# Altium integrated library Linear Technology Power Management Hot Swap Controllers.IntLib: 992 symbols (part 63 of 93)
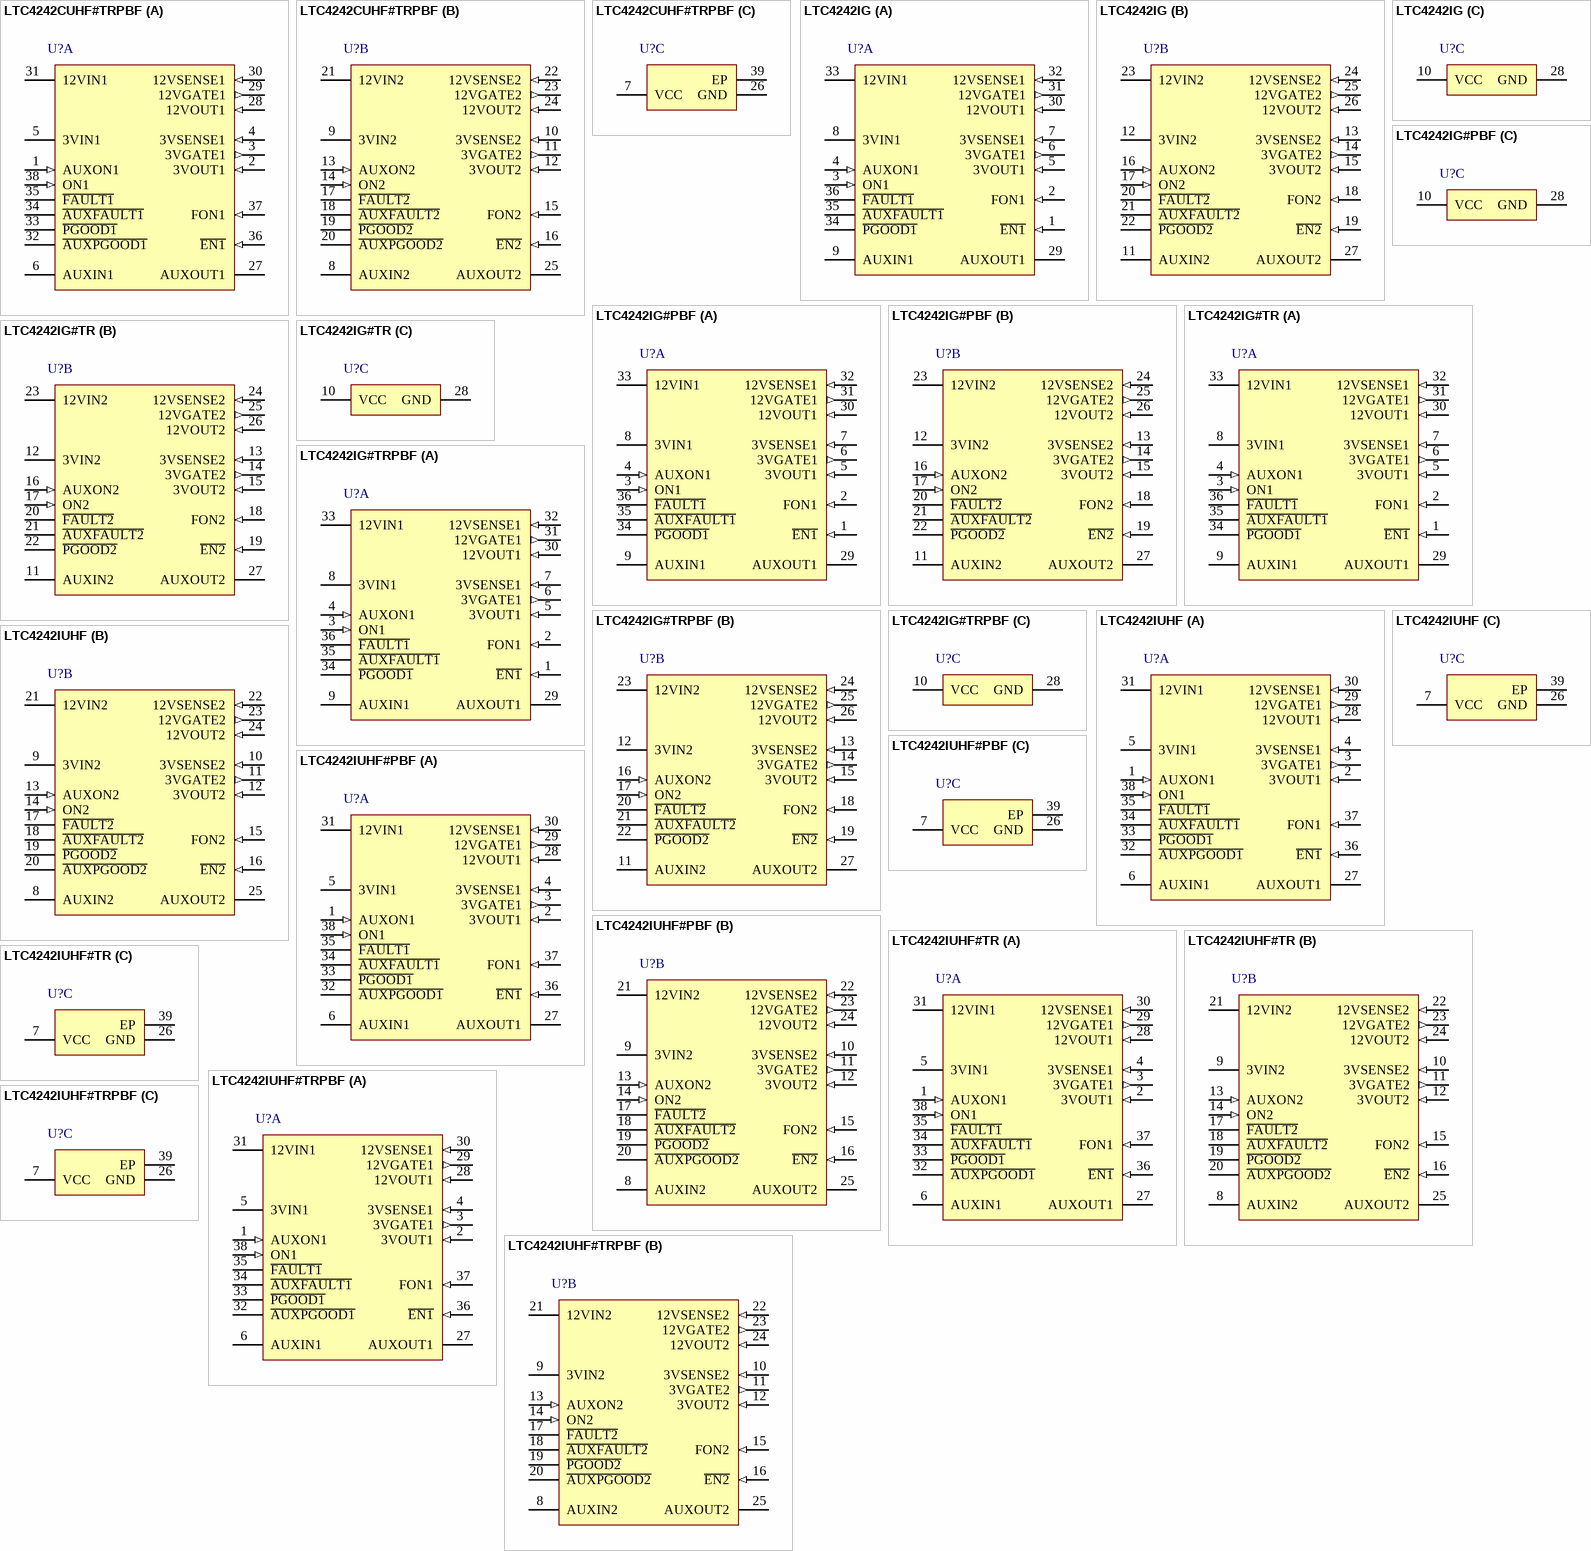
[diagram p99: symbols LTC4242CUHF#TRPBF to LTC4242IUHF#TRPBF]

## LTC4242IUHF#PBF
designator U?
Dual Slot Hot Swap Controller for PCI Express, 3.3 V, 12 V, 3.3 V Aux Vin, 38-pin QFN (UHF-38), -40 to 85 degC, Pb-Free; Manufacturer: Linear Technology; PartNumber: LTC4242IUHF#PBF; Active Limiting: yes; Circuit Breaker Accuracy(%): 10; Circuit Breaker Threshold: 50 mV (3.3,12), 550 mA (3.3 aux); Circuit Breakers(#): 6; Extended Temp: C, I; PackageVersion: Rev. C, 06/2010; PackageReference: UHF-38; PackageDescription: 38-Pin Plastic QFN, Body 7 x 5 mm, Pitch 0.5 mm; Supplier 1: Digi-Key; Supplier Part Number 1: LTC4242IUHF#PBF-ND; Fault: yes; Power Good: yes; RoHS: TRUE; Vin Range: 3.3 V, 12 V, 3.3 V aux; Mounting Technology: Surface Mount; Code_JEDEC: MO-220; ComponentLink1Description: Manufacturer URL; ComponentLink1URL: http://www.linear.com/; ComponentLink2Description: Datasheet; ComponentLink2URL: http://cds.linear.com/docs/en/datasheet/4242f.pdf; ComponentLink3Description: Package Specification; ComponentLink3URL: http://cds.linear.com/docs/en/packaging/QFN_38_05-08-1701.pdf
footprint LT-UHF-38_N (QFN, 38-Leads, Body 7.1x5.1mm, Pitch 0.5mm, Thermal Pad 3.15x5.15mm, IPC Medium Density)
footprint LT-UHF-38_L (QFN, 38-Leads, Body 7.1x5.1mm, Pitch 0.5mm, Thermal Pad 3.15x5.15mm, IPC High Density)
footprint LT-UHF-38_M (QFN, 38-Leads, Body 7.1x5.1mm, Pitch 0.5mm, Thermal Pad 3.15x5.15mm, IPC Low Density)
part A pins: 1 AUXON1 (in) "AUX Supply On Control Input. A rising edge turns on the internal FET, while a falling edge turns it off. Pulling this pin below 0.6V for more than 3.5us clears the fault on the AUX channel.", 2 3VOUT1 (in) "3.3V Output Connection. Connect this pin to the source of the 3.3V supply external N-channel MOSFET for gate drive return. P\G\O\O\D\1\/P\G\O\O\D\2\ cannot pull low until this pin goes above 2.855V. A 375ohm active pull-down (See Datasheet)", 3 3VGATE1 (out) "Gate Drive for 3.3V Supply External N-Channel MOSFET. An internal charge pump provides a 9uA pull-up current to ramp up 3VGATEn. During turn off, a 1mA pull-down current source discharges 3VGATEn to ground. 3VGATEn is (See Datasheet)", 4 3VSENSE1 (in) "3.3V Supply Current Limit Sense Input. A sense resistor is placed in the supply path between 3VINn and 3VSENSEn to sense 3.3V channel’s load current. The voltage across the sense resistor is monitored for active curren(See Datasheet)", 5 3VIN1 (power) "3.3V Supply Input. An undervoltage lockout circuit disables the 3.3V and 12V supplies when 3VINn voltage is less than 2.67V.", 6 AUXIN1 (power) "AUX Supply Input. An undervoltage lockout circuit disables the AUX supply when the voltage at AUXINn is less than 2.67V. AUXINn is the input to the internal pass FET.", 27 AUXOUT1 (power) "AUX Supply Output. AUXOUTn is the output from the internal pass FET. A\U\X\P\G\O\O\D\1\/A\U\X\P\G\O\O\D\2\ cannot pull low until this pin goes above 2.855V. A 750ohm active pull-down discharges AUXOUTn to ground when the (See Datasheet)", 28 12VOUT1 (in) "12V Output Connection. Connect this pin to the source of the 12V supply external N-channel MOSFET for gate drive return. P\G\O\O\D\1\/P\G\O\O\D\2\ cannot pull low until this pin goes above 10.38V. A 700ohm active pull-down (See Datasheet)", 29 12VGATE1 (out) "Gate Drive for 12V Supply External N-Channel MOSFET. An internal charge pump provides a 9uA pull-up current to ramp up 12VGATEn. During turn off, a 1mA pull-down current source discharges 12VGATEn to ground. 12VGATEn is (See Datasheet)", 30 12VSENSE1 (in) "12V Supply Current Limit Sense Input. A sense resistor is placed in the supply path between 12VINn and 12VSENSEn to sense the 12V channel’s load current. The voltage across the sense resistor is monitored for activ(See Datasheet)", 31 12VIN1 (power) "12V Supply Input. An undervoltage lockout circuit disables the 12V and 3.3V supplies when 12VINn voltage is less than 9.78V.", 32 ~{AUXPGOOD1} (oc) "AUX Supply Power Status Output. This open-drain pin is pulled high by an internal 9uA pull-up when AUXOUTn is below power good threshold, when E\N\n\ is high, during thermal shutdown, AUXONn is low or when VCC or AUXINn are (See Datasheet)", 33 ~{PGOOD1} (oc) "Main Supply Power Status Output. This open-drain pin is pulled high by an internal 9uA pull-up when 12VOUTn or 3VOUTn is below power good threshold, when E\N\n\ is high, ONn is low or when VCC or any of the main supplies are (See Datasheet)", 34 ~{AUXFAULT1} (oc) "AUX Supply Fault Status Output. A\U\X\F\A\U\L\T\n\ is normally pulled high by an internal 9uA pull-up. It asserts low if the AUX channel shuts off due to an overcurrent fault or due to the device temperature rising above (See Datasheet)", 35 ~{FAULT1} (oc) "Main Supplies Fault Status Output. F\A\U\L\T\n\ is pulled high by an internal 9uA pull-up. When an overcurrent fault occurs at either the 12V or 3.3V supply, F\A\U\L\T\n\ is latched low.", 36 ~{EN1} (in) "Card Presence/Slot Insert Detect Input. E\N\n\ pin must be pulled below 1.235V to enable the system. An internal 9uA pull-up current source is present on this pin.", 37 FON1 (in) "Force On Digital Input. For diagnostic purposes, a high input overrides undervoltage and overcurrent faults on 12V, 3.3V and AUX channels and input commands on the ONn and AUXONn pins. However, UVLO on VCC would shut off the (See Datasheet)", 38 ON1 (in) "Main Supply On Control Input. A rising edge turns on the external MOSFETs for the 12V and 3.3V supplies, while a falling edge turns them off. Pull this pin below 0.6V to clear the faults on 12V and 3.3V channels."
part B pins: 8 AUXIN2 (power) "AUX Supply Input. An undervoltage lockout circuit disables the AUX supply when the voltage at AUXINn is less than 2.67V. AUXINn is the input to the internal pass FET.", 9 3VIN2 (power) "3.3V Supply Input. An undervoltage lockout circuit disables the 3.3V and 12V supplies when 3VINn voltage is less than 2.67V.", 10 3VSENSE2 (in) "3.3V Supply Current Limit Sense Input. A sense resistor is placed in the supply path between 3VINn and 3VSENSEn to sense 3.3V channel’s load current. The voltage across the sense resistor is monitored for active curren(See Datasheet)", 11 3VGATE2 (out) "Gate Drive for 3.3V Supply External N-Channel MOSFET. An internal charge pump provides a 9uA pull-up current to ramp up 3VGATEn. During turn off, a 1mA pull-down current source discharges 3VGATEn to ground. 3VGATEn is (See Datasheet)", 12 3VOUT2 (in) "3.3V Output Connection. Connect this pin to the source of the 3.3V supply external N-channel MOSFET for gate drive return. P\G\O\O\D\1\/P\G\O\O\D\2\ cannot pull low until this pin goes above 2.855V. A 375ohm active pull-down (See Datasheet)", 13 AUXON2 (in) "AUX Supply On Control Input. A rising edge turns on the internal FET, while a falling edge turns it off. Pulling this pin below 0.6V for more than 3.5us clears the fault on the AUX channel.", 14 ON2 (in) "Main Supply On Control Input. A rising edge turns on the external MOSFETs for the 12V and 3.3V supplies, while a falling edge turns them off. Pull this pin below 0.6V to clear the faults on 12V and 3.3V channels.", 15 FON2 (in) "Force On Digital Input. For diagnostic purposes, a high input overrides undervoltage and overcurrent faults on 12V, 3.3V and AUX channels and input commands on the ONn and AUXONn pins. However, UVLO on VCC would shut off the (See Datasheet)", 16 ~{EN2} (in) "Card Presence/Slot Insert Detect Input. E\N\n\ pin must be pulled below 1.235V to enable the system. An internal 9uA pull-up current source is present on this pin.", 17 ~{FAULT2} (oc) "Main Supplies Fault Status Output. F\A\U\L\T\n\ is pulled high by an internal 9uA pull-up. When an overcurrent fault occurs at either the 12V or 3.3V supply, F\A\U\L\T\n\ is latched low.", 18 ~{AUXFAULT2} (oc) "AUX Supply Fault Status Output. A\U\X\F\A\U\L\T\n\ is normally pulled high by an internal 9uA pull-up. It asserts low if the AUX channel shuts off due to an overcurrent fault or due to the device temperature rising above (See Datasheet)", 19 ~{PGOOD2} (oc) "Main Supply Power Status Output. This open-drain pin is pulled high by an internal 9uA pull-up when 12VOUTn or 3VOUTn is below power good threshold, when E\N\n\ is high, ONn is low or when VCC or any of the main supplies are (See Datasheet)", 20 ~{AUXPGOOD2} (oc) "AUX Supply Power Status Output. This open-drain pin is pulled high by an internal 9uA pull-up when AUXOUTn is below power good threshold, when E\N\n\ is high, during thermal shutdown, AUXONn is low or when VCC or AUXINn are (See Datasheet)", 21 12VIN2 (power) "12V Supply Input. An undervoltage lockout circuit disables the 12V and 3.3V supplies when 12VINn voltage is less than 9.78V.", 22 12VSENSE2 (in) "12V Supply Current Limit Sense Input. A sense resistor is placed in the supply path between 12VINn and 12VSENSEn to sense the 12V channel’s load current. The voltage across the sense resistor is monitored for activ(See Datasheet)", 23 12VGATE2 (out) "Gate Drive for 12V Supply External N-Channel MOSFET. An internal charge pump provides a 9uA pull-up current to ramp up 12VGATEn. During turn off, a 1mA pull-down current source discharges 12VGATEn to ground. 12VGATEn is (See Datasheet)", 24 12VOUT2 (in) "12V Output Connection. Connect this pin to the source of the 12V supply external N-channel MOSFET for gate drive return. P\G\O\O\D\1\/P\G\O\O\D\2\ cannot pull low until this pin goes above 10.38V. A 700ohm active pull-down (See Datasheet)", 25 AUXOUT2 (power) "AUX Supply Output. AUXOUTn is the output from the internal pass FET. A\U\X\P\G\O\O\D\1\/A\U\X\P\G\O\O\D\2\ cannot pull low until this pin goes above 2.855V. A 750ohm active pull-down discharges AUXOUTn to ground when the (See Datasheet)"
part C pins: 7 VCC (power) "Device Supply Input. Operates from 2.7V to 6V. An internal undervoltage lockout circuit disables the part until the voltage at VCC exceeds 2.45V.", 26 GND (power) "Device Ground. Connect to a ground plane.", 39 EP (power) "Power Ground. PCB electrical connection is optional."

## LTC4242IUHF#TR
designator U?
Dual Slot Hot Swap Controller for PCI Express, 3.3 V, 12 V, 3.3 V Aux Vin, 38-pin QFN (UHF-38), -40 to 85 degC, Tape and Reel; Manufacturer: Linear Technology; PartNumber: LTC4242IUHF#TR; Active Limiting: yes; Circuit Breaker Accuracy(%): 10; Circuit Breaker Threshold: 50 mV (3.3,12), 550 mA (3.3 aux); Circuit Breakers(#): 6; Extended Temp: C, I; PackageVersion: Rev. C, 06/2010; PackageReference: UHF-38; PackageDescription: 38-Pin Plastic QFN, Body 7 x 5 mm, Pitch 0.5 mm; Fault: yes; Packing: Tape and Reel; Power Good: yes; RoHS: FALSE; Vin Range: 3.3 V, 12 V, 3.3 V aux; Mounting Technology: Surface Mount; Code_JEDEC: MO-220; ComponentLink1Description: Manufacturer URL; ComponentLink1URL: http://www.linear.com/; ComponentLink2Description: Datasheet; ComponentLink2URL: http://cds.linear.com/docs/en/datasheet/4242f.pdf; ComponentLink3Description: Package Specification; ComponentLink3URL: http://cds.linear.com/docs/en/packaging/QFN_38_05-08-1701.pdf
footprint LT-UHF-38_N (QFN, 38-Leads, Body 7.1x5.1mm, Pitch 0.5mm, Thermal Pad 3.15x5.15mm, IPC Medium Density)
footprint LT-UHF-38_L (QFN, 38-Leads, Body 7.1x5.1mm, Pitch 0.5mm, Thermal Pad 3.15x5.15mm, IPC High Density)
footprint LT-UHF-38_M (QFN, 38-Leads, Body 7.1x5.1mm, Pitch 0.5mm, Thermal Pad 3.15x5.15mm, IPC Low Density)
part A pins: 1 AUXON1 (in) "AUX Supply On Control Input. A rising edge turns on the internal FET, while a falling edge turns it off. Pulling this pin below 0.6V for more than 3.5us clears the fault on the AUX channel.", 2 3VOUT1 (in) "3.3V Output Connection. Connect this pin to the source of the 3.3V supply external N-channel MOSFET for gate drive return. P\G\O\O\D\1\/P\G\O\O\D\2\ cannot pull low until this pin goes above 2.855V. A 375ohm active pull-down (See Datasheet)", 3 3VGATE1 (out) "Gate Drive for 3.3V Supply External N-Channel MOSFET. An internal charge pump provides a 9uA pull-up current to ramp up 3VGATEn. During turn off, a 1mA pull-down current source discharges 3VGATEn to ground. 3VGATEn is (See Datasheet)", 4 3VSENSE1 (in) "3.3V Supply Current Limit Sense Input. A sense resistor is placed in the supply path between 3VINn and 3VSENSEn to sense 3.3V channel’s load current. The voltage across the sense resistor is monitored for active curren(See Datasheet)", 5 3VIN1 (power) "3.3V Supply Input. An undervoltage lockout circuit disables the 3.3V and 12V supplies when 3VINn voltage is less than 2.67V.", 6 AUXIN1 (power) "AUX Supply Input. An undervoltage lockout circuit disables the AUX supply when the voltage at AUXINn is less than 2.67V. AUXINn is the input to the internal pass FET.", 27 AUXOUT1 (power) "AUX Supply Output. AUXOUTn is the output from the internal pass FET. A\U\X\P\G\O\O\D\1\/A\U\X\P\G\O\O\D\2\ cannot pull low until this pin goes above 2.855V. A 750ohm active pull-down discharges AUXOUTn to ground when the (See Datasheet)", 28 12VOUT1 (in) "12V Output Connection. Connect this pin to the source of the 12V supply external N-channel MOSFET for gate drive return. P\G\O\O\D\1\/P\G\O\O\D\2\ cannot pull low until this pin goes above 10.38V. A 700ohm active pull-down (See Datasheet)", 29 12VGATE1 (out) "Gate Drive for 12V Supply External N-Channel MOSFET. An internal charge pump provides a 9uA pull-up current to ramp up 12VGATEn. During turn off, a 1mA pull-down current source discharges 12VGATEn to ground. 12VGATEn is (See Datasheet)", 30 12VSENSE1 (in) "12V Supply Current Limit Sense Input. A sense resistor is placed in the supply path between 12VINn and 12VSENSEn to sense the 12V channel’s load current. The voltage across the sense resistor is monitored for activ(See Datasheet)", 31 12VIN1 (power) "12V Supply Input. An undervoltage lockout circuit disables the 12V and 3.3V supplies when 12VINn voltage is less than 9.78V.", 32 ~{AUXPGOOD1} (oc) "AUX Supply Power Status Output. This open-drain pin is pulled high by an internal 9uA pull-up when AUXOUTn is below power good threshold, when E\N\n\ is high, during thermal shutdown, AUXONn is low or when VCC or AUXINn are (See Datasheet)", 33 ~{PGOOD1} (oc) "Main Supply Power Status Output. This open-drain pin is pulled high by an internal 9uA pull-up when 12VOUTn or 3VOUTn is below power good threshold, when E\N\n\ is high, ONn is low or when VCC or any of the main supplies are (See Datasheet)", 34 ~{AUXFAULT1} (oc) "AUX Supply Fault Status Output. A\U\X\F\A\U\L\T\n\ is normally pulled high by an internal 9uA pull-up. It asserts low if the AUX channel shuts off due to an overcurrent fault or due to the device temperature rising above (See Datasheet)", 35 ~{FAULT1} (oc) "Main Supplies Fault Status Output. F\A\U\L\T\n\ is pulled high by an internal 9uA pull-up. When an overcurrent fault occurs at either the 12V or 3.3V supply, F\A\U\L\T\n\ is latched low.", 36 ~{EN1} (in) "Card Presence/Slot Insert Detect Input. E\N\n\ pin must be pulled below 1.235V to enable the system. An internal 9uA pull-up current source is present on this pin.", 37 FON1 (in) "Force On Digital Input. For diagnostic purposes, a high input overrides undervoltage and overcurrent faults on 12V, 3.3V and AUX channels and input commands on the ONn and AUXONn pins. However, UVLO on VCC would shut off the (See Datasheet)", 38 ON1 (in) "Main Supply On Control Input. A rising edge turns on the external MOSFETs for the 12V and 3.3V supplies, while a falling edge turns them off. Pull this pin below 0.6V to clear the faults on 12V and 3.3V channels."
part B pins: 8 AUXIN2 (power) "AUX Supply Input. An undervoltage lockout circuit disables the AUX supply when the voltage at AUXINn is less than 2.67V. AUXINn is the input to the internal pass FET.", 9 3VIN2 (power) "3.3V Supply Input. An undervoltage lockout circuit disables the 3.3V and 12V supplies when 3VINn voltage is less than 2.67V.", 10 3VSENSE2 (in) "3.3V Supply Current Limit Sense Input. A sense resistor is placed in the supply path between 3VINn and 3VSENSEn to sense 3.3V channel’s load current. The voltage across the sense resistor is monitored for active curren(See Datasheet)", 11 3VGATE2 (out) "Gate Drive for 3.3V Supply External N-Channel MOSFET. An internal charge pump provides a 9uA pull-up current to ramp up 3VGATEn. During turn off, a 1mA pull-down current source discharges 3VGATEn to ground. 3VGATEn is (See Datasheet)", 12 3VOUT2 (in) "3.3V Output Connection. Connect this pin to the source of the 3.3V supply external N-channel MOSFET for gate drive return. P\G\O\O\D\1\/P\G\O\O\D\2\ cannot pull low until this pin goes above 2.855V. A 375ohm active pull-down (See Datasheet)", 13 AUXON2 (in) "AUX Supply On Control Input. A rising edge turns on the internal FET, while a falling edge turns it off. Pulling this pin below 0.6V for more than 3.5us clears the fault on the AUX channel.", 14 ON2 (in) "Main Supply On Control Input. A rising edge turns on the external MOSFETs for the 12V and 3.3V supplies, while a falling edge turns them off. Pull this pin below 0.6V to clear the faults on 12V and 3.3V channels.", 15 FON2 (in) "Force On Digital Input. For diagnostic purposes, a high input overrides undervoltage and overcurrent faults on 12V, 3.3V and AUX channels and input commands on the ONn and AUXONn pins. However, UVLO on VCC would shut off the (See Datasheet)", 16 ~{EN2} (in) "Card Presence/Slot Insert Detect Input. E\N\n\ pin must be pulled below 1.235V to enable the system. An internal 9uA pull-up current source is present on this pin.", 17 ~{FAULT2} (oc) "Main Supplies Fault Status Output. F\A\U\L\T\n\ is pulled high by an internal 9uA pull-up. When an overcurrent fault occurs at either the 12V or 3.3V supply, F\A\U\L\T\n\ is latched low.", 18 ~{AUXFAULT2} (oc) "AUX Supply Fault Status Output. A\U\X\F\A\U\L\T\n\ is normally pulled high by an internal 9uA pull-up. It asserts low if the AUX channel shuts off due to an overcurrent fault or due to the device temperature rising above (See Datasheet)", 19 ~{PGOOD2} (oc) "Main Supply Power Status Output. This open-drain pin is pulled high by an internal 9uA pull-up when 12VOUTn or 3VOUTn is below power good threshold, when E\N\n\ is high, ONn is low or when VCC or any of the main supplies are (See Datasheet)", 20 ~{AUXPGOOD2} (oc) "AUX Supply Power Status Output. This open-drain pin is pulled high by an internal 9uA pull-up when AUXOUTn is below power good threshold, when E\N\n\ is high, during thermal shutdown, AUXONn is low or when VCC or AUXINn are (See Datasheet)", 21 12VIN2 (power) "12V Supply Input. An undervoltage lockout circuit disables the 12V and 3.3V supplies when 12VINn voltage is less than 9.78V.", 22 12VSENSE2 (in) "12V Supply Current Limit Sense Input. A sense resistor is placed in the supply path between 12VINn and 12VSENSEn to sense the 12V channel’s load current. The voltage across the sense resistor is monitored for activ(See Datasheet)", 23 12VGATE2 (out) "Gate Drive for 12V Supply External N-Channel MOSFET. An internal charge pump provides a 9uA pull-up current to ramp up 12VGATEn. During turn off, a 1mA pull-down current source discharges 12VGATEn to ground. 12VGATEn is (See Datasheet)", 24 12VOUT2 (in) "12V Output Connection. Connect this pin to the source of the 12V supply external N-channel MOSFET for gate drive return. P\G\O\O\D\1\/P\G\O\O\D\2\ cannot pull low until this pin goes above 10.38V. A 700ohm active pull-down (See Datasheet)", 25 AUXOUT2 (power) "AUX Supply Output. AUXOUTn is the output from the internal pass FET. A\U\X\P\G\O\O\D\1\/A\U\X\P\G\O\O\D\2\ cannot pull low until this pin goes above 2.855V. A 750ohm active pull-down discharges AUXOUTn to ground when the (See Datasheet)"
part C pins: 7 VCC (power) "Device Supply Input. Operates from 2.7V to 6V. An internal undervoltage lockout circuit disables the part until the voltage at VCC exceeds 2.45V.", 26 GND (power) "Device Ground. Connect to a ground plane.", 39 EP (power) "Power Ground. PCB electrical connection is optional."

## LTC4242IUHF#TRPBF
designator U?
Dual Slot Hot Swap Controller for PCI Express, 3.3 V, 12 V, 3.3 V Aux Vin, 38-pin QFN (UHF-38), -40 to 85 degC, Pb-Free, Tape and Reel; Manufacturer: Linear Technology; PartNumber: LTC4242IUHF#TRPBF; Active Limiting: yes; Circuit Breaker Accuracy(%): 10; Circuit Breaker Threshold: 50 mV (3.3,12), 550 mA (3.3 aux); Circuit Breakers(#): 6; Extended Temp: C, I; PackageVersion: Rev. C, 06/2010; PackageReference: UHF-38; PackageDescription: 38-Pin Plastic QFN, Body 7 x 5 mm, Pitch 0.5 mm; Supplier 1: Digi-Key; Supplier Part Number 1: LTC4242IUHF#TRPBF-ND; Supplier 2: Newark; Supplier Part Number 2: 56M8918; Fault: yes; Packing: Tape and Reel; Power Good: yes; RoHS: TRUE; Vin Range: 3.3 V, 12 V, 3.3 V aux; Mounting Technology: Surface Mount; Code_JEDEC: MO-220; ComponentLink1Description: Manufacturer URL; ComponentLink1URL: http://www.linear.com/; ComponentLink2Description: Datasheet; ComponentLink2URL: http://cds.linear.com/docs/en/datasheet/4242f.pdf; ComponentLink3Description: Package Specification; ComponentLink3URL: http://cds.linear.com/docs/en/packaging/QFN_38_05-08-1701.pdf
footprint LT-UHF-38_N (QFN, 38-Leads, Body 7.1x5.1mm, Pitch 0.5mm, Thermal Pad 3.15x5.15mm, IPC Medium Density)
footprint LT-UHF-38_L (QFN, 38-Leads, Body 7.1x5.1mm, Pitch 0.5mm, Thermal Pad 3.15x5.15mm, IPC High Density)
footprint LT-UHF-38_M (QFN, 38-Leads, Body 7.1x5.1mm, Pitch 0.5mm, Thermal Pad 3.15x5.15mm, IPC Low Density)
part A pins: 1 AUXON1 (in) "AUX Supply On Control Input. A rising edge turns on the internal FET, while a falling edge turns it off. Pulling this pin below 0.6V for more than 3.5us clears the fault on the AUX channel.", 2 3VOUT1 (in) "3.3V Output Connection. Connect this pin to the source of the 3.3V supply external N-channel MOSFET for gate drive return. P\G\O\O\D\1\/P\G\O\O\D\2\ cannot pull low until this pin goes above 2.855V. A 375ohm active pull-down (See Datasheet)", 3 3VGATE1 (out) "Gate Drive for 3.3V Supply External N-Channel MOSFET. An internal charge pump provides a 9uA pull-up current to ramp up 3VGATEn. During turn off, a 1mA pull-down current source discharges 3VGATEn to ground. 3VGATEn is (See Datasheet)", 4 3VSENSE1 (in) "3.3V Supply Current Limit Sense Input. A sense resistor is placed in the supply path between 3VINn and 3VSENSEn to sense 3.3V channel’s load current. The voltage across the sense resistor is monitored for active curren(See Datasheet)", 5 3VIN1 (power) "3.3V Supply Input. An undervoltage lockout circuit disables the 3.3V and 12V supplies when 3VINn voltage is less than 2.67V.", 6 AUXIN1 (power) "AUX Supply Input. An undervoltage lockout circuit disables the AUX supply when the voltage at AUXINn is less than 2.67V. AUXINn is the input to the internal pass FET.", 27 AUXOUT1 (power) "AUX Supply Output. AUXOUTn is the output from the internal pass FET. A\U\X\P\G\O\O\D\1\/A\U\X\P\G\O\O\D\2\ cannot pull low until this pin goes above 2.855V. A 750ohm active pull-down discharges AUXOUTn to ground when the (See Datasheet)", 28 12VOUT1 (in) "12V Output Connection. Connect this pin to the source of the 12V supply external N-channel MOSFET for gate drive return. P\G\O\O\D\1\/P\G\O\O\D\2\ cannot pull low until this pin goes above 10.38V. A 700ohm active pull-down (See Datasheet)", 29 12VGATE1 (out) "Gate Drive for 12V Supply External N-Channel MOSFET. An internal charge pump provides a 9uA pull-up current to ramp up 12VGATEn. During turn off, a 1mA pull-down current source discharges 12VGATEn to ground. 12VGATEn is (See Datasheet)", 30 12VSENSE1 (in) "12V Supply Current Limit Sense Input. A sense resistor is placed in the supply path between 12VINn and 12VSENSEn to sense the 12V channel’s load current. The voltage across the sense resistor is monitored for activ(See Datasheet)", 31 12VIN1 (power) "12V Supply Input. An undervoltage lockout circuit disables the 12V and 3.3V supplies when 12VINn voltage is less than 9.78V.", 32 ~{AUXPGOOD1} (oc) "AUX Supply Power Status Output. This open-drain pin is pulled high by an internal 9uA pull-up when AUXOUTn is below power good threshold, when E\N\n\ is high, during thermal shutdown, AUXONn is low or when VCC or AUXINn are (See Datasheet)", 33 ~{PGOOD1} (oc) "Main Supply Power Status Output. This open-drain pin is pulled high by an internal 9uA pull-up when 12VOUTn or 3VOUTn is below power good threshold, when E\N\n\ is high, ONn is low or when VCC or any of the main supplies are (See Datasheet)", 34 ~{AUXFAULT1} (oc) "AUX Supply Fault Status Output. A\U\X\F\A\U\L\T\n\ is normally pulled high by an internal 9uA pull-up. It asserts low if the AUX channel shuts off due to an overcurrent fault or due to the device temperature rising above (See Datasheet)", 35 ~{FAULT1} (oc) "Main Supplies Fault Status Output. F\A\U\L\T\n\ is pulled high by an internal 9uA pull-up. When an overcurrent fault occurs at either the 12V or 3.3V supply, F\A\U\L\T\n\ is latched low.", 36 ~{EN1} (in) "Card Presence/Slot Insert Detect Input. E\N\n\ pin must be pulled below 1.235V to enable the system. An internal 9uA pull-up current source is present on this pin.", 37 FON1 (in) "Force On Digital Input. For diagnostic purposes, a high input overrides undervoltage and overcurrent faults on 12V, 3.3V and AUX channels and input commands on the ONn and AUXONn pins. However, UVLO on VCC would shut off the (See Datasheet)", 38 ON1 (in) "Main Supply On Control Input. A rising edge turns on the external MOSFETs for the 12V and 3.3V supplies, while a falling edge turns them off. Pull this pin below 0.6V to clear the faults on 12V and 3.3V channels."
part B pins: 8 AUXIN2 (power) "AUX Supply Input. An undervoltage lockout circuit disables the AUX supply when the voltage at AUXINn is less than 2.67V. AUXINn is the input to the internal pass FET.", 9 3VIN2 (power) "3.3V Supply Input. An undervoltage lockout circuit disables the 3.3V and 12V supplies when 3VINn voltage is less than 2.67V.", 10 3VSENSE2 (in) "3.3V Supply Current Limit Sense Input. A sense resistor is placed in the supply path between 3VINn and 3VSENSEn to sense 3.3V channel’s load current. The voltage across the sense resistor is monitored for active curren(See Datasheet)", 11 3VGATE2 (out) "Gate Drive for 3.3V Supply External N-Channel MOSFET. An internal charge pump provides a 9uA pull-up current to ramp up 3VGATEn. During turn off, a 1mA pull-down current source discharges 3VGATEn to ground. 3VGATEn is (See Datasheet)", 12 3VOUT2 (in) "3.3V Output Connection. Connect this pin to the source of the 3.3V supply external N-channel MOSFET for gate drive return. P\G\O\O\D\1\/P\G\O\O\D\2\ cannot pull low until this pin goes above 2.855V. A 375ohm active pull-down (See Datasheet)", 13 AUXON2 (in) "AUX Supply On Control Input. A rising edge turns on the internal FET, while a falling edge turns it off. Pulling this pin below 0.6V for more than 3.5us clears the fault on the AUX channel.", 14 ON2 (in) "Main Supply On Control Input. A rising edge turns on the external MOSFETs for the 12V and 3.3V supplies, while a falling edge turns them off. Pull this pin below 0.6V to clear the faults on 12V and 3.3V channels.", 15 FON2 (in) "Force On Digital Input. For diagnostic purposes, a high input overrides undervoltage and overcurrent faults on 12V, 3.3V and AUX channels and input commands on the ONn and AUXONn pins. However, UVLO on VCC would shut off the (See Datasheet)", 16 ~{EN2} (in) "Card Presence/Slot Insert Detect Input. E\N\n\ pin must be pulled below 1.235V to enable the system. An internal 9uA pull-up current source is present on this pin.", 17 ~{FAULT2} (oc) "Main Supplies Fault Status Output. F\A\U\L\T\n\ is pulled high by an internal 9uA pull-up. When an overcurrent fault occurs at either the 12V or 3.3V supply, F\A\U\L\T\n\ is latched low.", 18 ~{AUXFAULT2} (oc) "AUX Supply Fault Status Output. A\U\X\F\A\U\L\T\n\ is normally pulled high by an internal 9uA pull-up. It asserts low if the AUX channel shuts off due to an overcurrent fault or due to the device temperature rising above (See Datasheet)", 19 ~{PGOOD2} (oc) "Main Supply Power Status Output. This open-drain pin is pulled high by an internal 9uA pull-up when 12VOUTn or 3VOUTn is below power good threshold, when E\N\n\ is high, ONn is low or when VCC or any of the main supplies are (See Datasheet)", 20 ~{AUXPGOOD2} (oc) "AUX Supply Power Status Output. This open-drain pin is pulled high by an internal 9uA pull-up when AUXOUTn is below power good threshold, when E\N\n\ is high, during thermal shutdown, AUXONn is low or when VCC or AUXINn are (See Datasheet)", 21 12VIN2 (power) "12V Supply Input. An undervoltage lockout circuit disables the 12V and 3.3V supplies when 12VINn voltage is less than 9.78V.", 22 12VSENSE2 (in) "12V Supply Current Limit Sense Input. A sense resistor is placed in the supply path between 12VINn and 12VSENSEn to sense the 12V channel’s load current. The voltage across the sense resistor is monitored for activ(See Datasheet)", 23 12VGATE2 (out) "Gate Drive for 12V Supply External N-Channel MOSFET. An internal charge pump provides a 9uA pull-up current to ramp up 12VGATEn. During turn off, a 1mA pull-down current source discharges 12VGATEn to ground. 12VGATEn is (See Datasheet)", 24 12VOUT2 (in) "12V Output Connection. Connect this pin to the source of the 12V supply external N-channel MOSFET for gate drive return. P\G\O\O\D\1\/P\G\O\O\D\2\ cannot pull low until this pin goes above 10.38V. A 700ohm active pull-down (See Datasheet)", 25 AUXOUT2 (power) "AUX Supply Output. AUXOUTn is the output from the internal pass FET. A\U\X\P\G\O\O\D\1\/A\U\X\P\G\O\O\D\2\ cannot pull low until this pin goes above 2.855V. A 750ohm active pull-down discharges AUXOUTn to ground when the (See Datasheet)"
part C pins: 7 VCC (power) "Device Supply Input. Operates from 2.7V to 6V. An internal undervoltage lockout circuit disables the part until the voltage at VCC exceeds 2.45V.", 26 GND (power) "Device Ground. Connect to a ground plane.", 39 EP (power) "Power Ground. PCB electrical connection is optional."

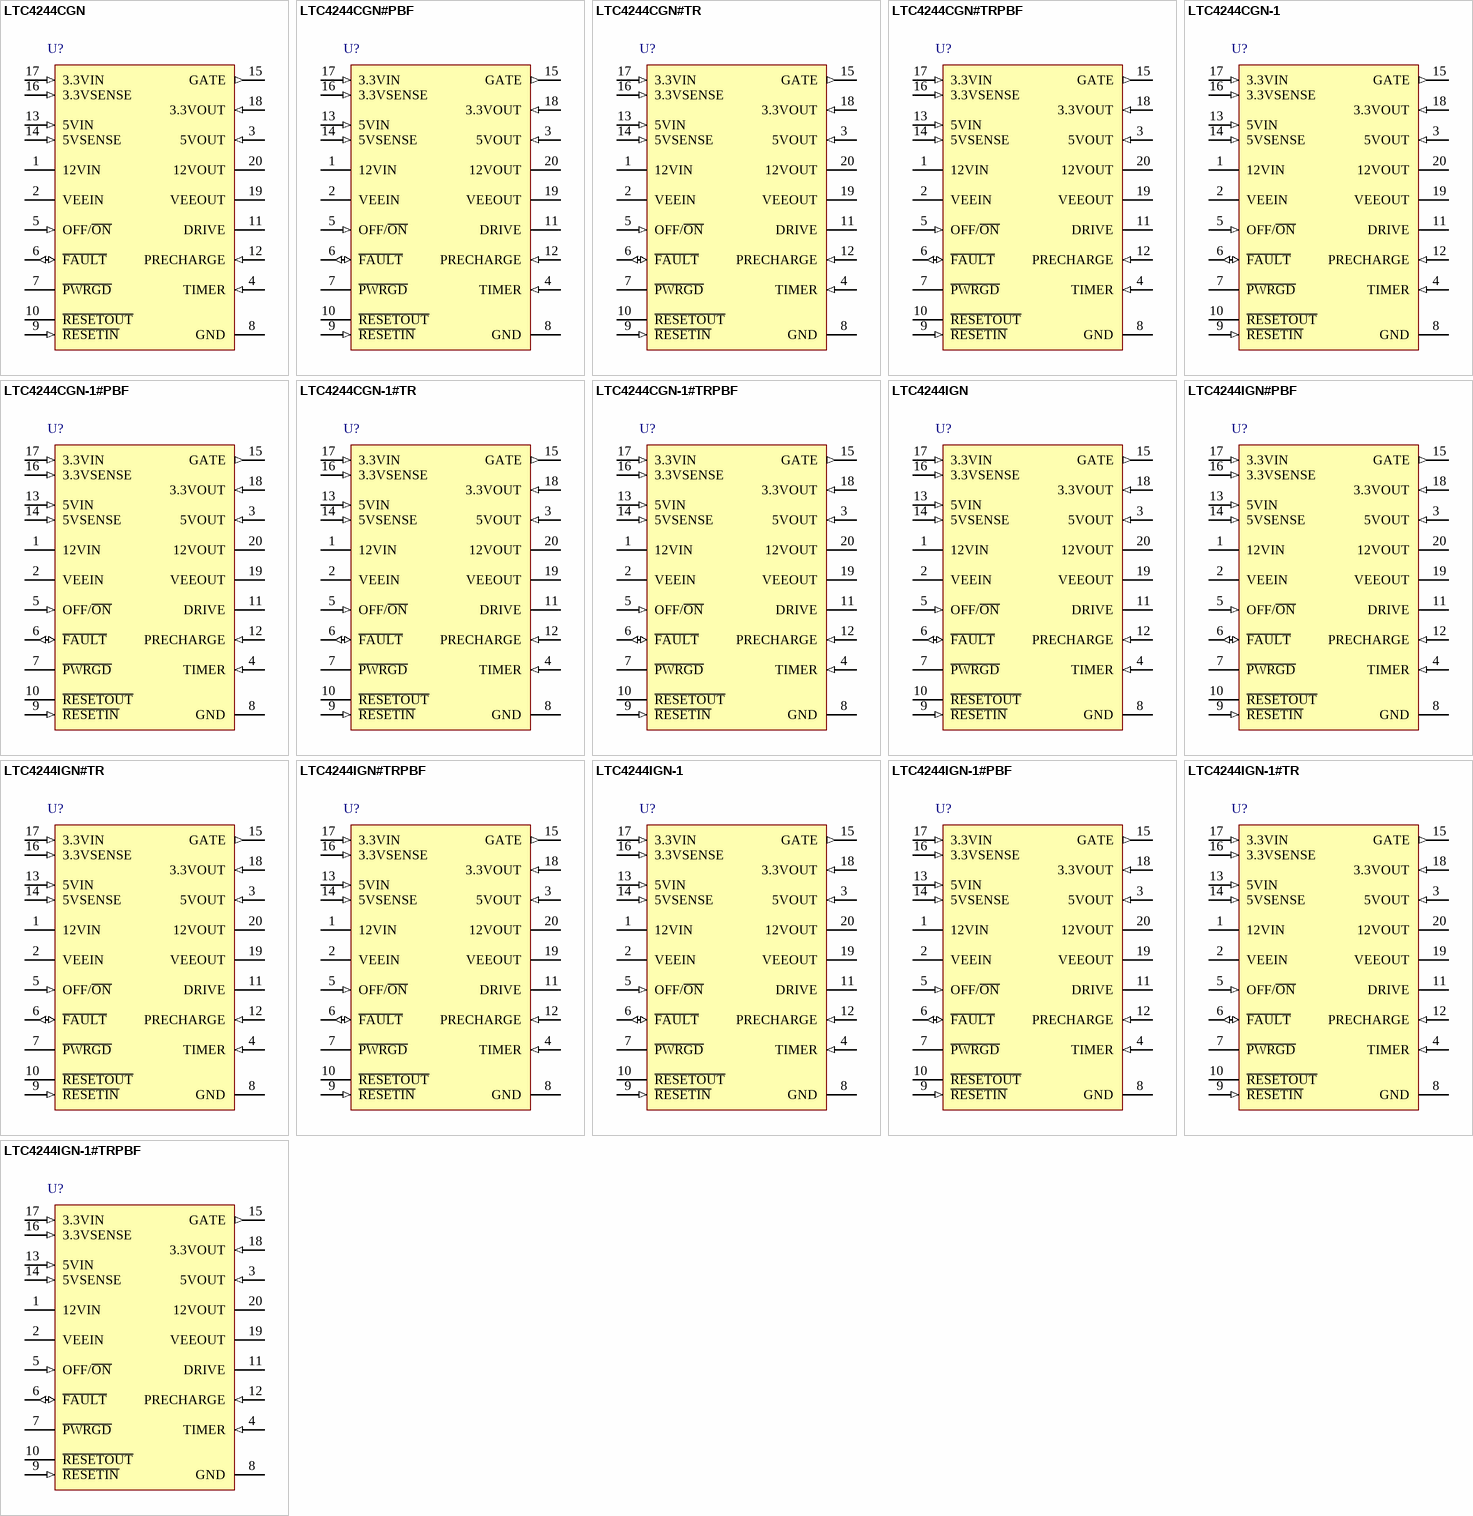
[diagram p26: symbols LTC4244CGN to LTC4244IGN-1#TRPBF]

## LTC4244CGN
designator U?
Rugged, Compact PCI Bus Hot Swap Controller, 3.3 V, 5 V, +/-12 V Vin, 20-pin SOP (GN-20), 0 to 70 degC; Manufacturer: Linear Technology; PartNumber: LTC4244CGN; Active Limiting: yes; Circuit Breaker Accuracy(%): 14; Circuit Breaker Threshold: 52 mV; Circuit Breakers(#): 4; Extended Temp: C, I; Fast Comparator: no; In-Rush Current: Active; PackageVersion: Rev. B, 03/2012; PackageReference: GN-20; PackageDescription: 20-Pin Plastic SSOP, Body 8.649 x 3.899 mm, Pitch 0.635 mm; Supplier 1: Digi-Key; Supplier Part Number 1: LTC4244CGN-ND; Fault: yes; Foldback: yes; Power Good: yes; Reset: no; RoHS: FALSE; Vin Range: 3.3 V, 5 V, +/-12 V; Mounting Technology: Surface Mount; ComponentLink1Description: Manufacturer URL; ComponentLink1URL: http://www.linear.com/; ComponentLink2Description: Datasheet; ComponentLink2URL: http://cds.linear.com/docs/en/datasheet/42441f.pdf; ComponentLink3Description: Package Specification; ComponentLink3URL: http://cds.linear.com/docs/en/packaging/05081641_B_GN20.pdf
footprint LT-GN-20_N (SOP, 20-Leads, Body 8.7x4mm, Pitch 0.635mm, IPC Medium Density)
footprint LT-GN-20_L (SOP, 20-Leads, Body 8.7x4mm, Pitch 0.635mm, IPC High Density)
footprint LT-GN-20_M (SOP, 20-Leads, Body 8.7x4mm, Pitch 0.635mm, IPC Low Density)
pins: 1 12VIN (power) "12V Supply Input. A 0.5ohm switch is connected between 12VIN and 12VOUT with a foldback current limit. An undervoltage lockout circuit prevents the switches from turning on while the 12VIN pin voltage is less than 9V. 12VIN (See Datasheet)", 2 VEEIN (power) "-12V Supply Input. A 1ohm switch is connected between VEEIN and VEEOUT with a foldback current limit. An undervoltage lockout circuit prevents the switches from turning on while the VEEIN pin voltage is greater than -9.25V. (See Datasheet)", 3 5VOUT (in) "5V Output Sense. The P\W\R\G\D\ pin will not pull low until the 5VOUT pin voltage exceeds 4.61V. A 200ohm active pull-down discharges 5VOUT to ground when the power switches are turned off.", 4 TIMER (in) "Current Fault Inhibit Timing Input and Auxiliary VCC. Connect a capacitor from TIMER to GND. When the LTC4244 is turned on, a 21uA pull-up current source is connected to TIMER. Current limit faults will be ignored until the (See Datasheet)", 5 OFF/~{ON} (in) "Digital Input. Connect the CPCI BD_SEL# signal to the OFF/O\N\ pin. When the OFF/O\N\ pin is pulled low, the GATE pin is pulled high by a 67uA current source and the internal 12V and -12V switches are turned on. When the (See Datasheet)", 6 ~{FAULT} (io) "Open-Drain Digital I/O. F\A\U\L\T\ is pulled low when a current limit fault is detected. Current limit faults are ignored until the voltage at the TIMER pin is within 1.6V of 12VIN. Once the TIMER cycle is complete, (See Datasheet)", 7 ~{PWRGD} (oc) "Open-Drain Digital Power Good Output. Connect the CPCI HEALTHY# signal to the P\W\R\G\D\ pin. P\W\R\G\D\ remains low while V12VOUT >= 11.1V, V3.3VOUT >= 2.9V, V5VOUT >= 4.61V, and VEEOUT=< -11.1V. When any of the supplies (See Datasheet)", 8 GND (power) "Device Ground.", 9 ~{RESETIN} (in) "Digital Input. Connect the CPCI PCI_RST# signal to the R\E\S\E\T\I\N\ pin. Pulling the R\E\S\E\T\I\N\ pin low will cause R\E\S\E\T\O\U\T\ to pull low. R\E\S\E\T\O\U\T\ will also pull low when P\W\R\G\D\ is high.", 10 ~{RESETOUT} (oc) "Open-Drain Digital Output. Connect the CPCI_LOCAL_RST# signal to the R\E\S\E\T\O\U\T\ pin. R\E\S\E\T\O\U\T\ is the logical combination of the R\E\S\E\T\I\N\ and P\W\R\G\D\.", 11 DRIVE (oc) "Precharge Base Drive Output. Provides base drive for an external NPN emitter-follower that in turn biases the PRECHARGE node.", 12 PRECHARGE (in) "Precharge Monitor Input. An internal error amplifier servos the DRIVE pin voltage to keep the PRECHARGE node at 1V. See Applications Information for generating voltages other than 1V. If not used, tie the PRECHARGE pin to (See Datasheet)", 13 5VIN (in) "5V Supply Sense Input. An undervoltage lockout circuit prevents the switches from turning on when the voltage at the 5VIN pin is less than 4.25V.", 14 5VSENSE (in) "5V Current Limit Sense. With a sense resistor placed in the supply path between 5VIN and 5VSENSE, the GATE pin voltage will be adjusted to maintain a constant 51mV across the sense resistor and a constant current through the (See Datasheet)", 15 GATE (out) "High Side Gate Drive for the External 3.3V and 5V N-Channel Pass Transistors. An external series RC network is required for current limit loop compensation and setting the minimum ramp-up time. During power-up, the slope of (See Datasheet)", 16 3.3VSENSE (in) "3.3V Current Limit Sense. With a sense resistor placed in the supply path between 3.3VIN and 3.3VSENSE, the GATE pin voltage will be adjusted to maintain a constant 51mV across the sense resistor and a constant current (See Datasheet)", 17 3.3VIN (in) "3.3V Supply Sense Input. An undervoltage lockout circuit prevents the switches from turning on when the voltage at the 3.3VIN pin is less than 2.5V. If no 3.3V input supply is available, short the 3.3VIN pin to the 5VIN pin.", 18 3.3VOUT (in) "Analog Input Used to Monitor the 3.3V Output Supply Voltage. The P\W\R\G\D\ pin cannot pull low until the 3.3VOUT pin voltage exceeds 2.9V. If no 3.3V input supply is available, tie the 3.3VOUT pin to the 5VOUT pin. A 200ohm (See Datasheet)", 19 VEEOUT (power) "12V Supply Output. A 1ohm switch is connected between VEEIN and VEEOUT. VEEOUT must be less than -11.1V before the P\W\R\G\D\ pin pulls low. The VEEOUT power good comparator is disabled for the LTC4244-1. A390ohm active (See Datasheet)", 20 12VOUT (power) "12V Supply Output. A 0.5ohm switch is connected between 12VIN and 12VOUT. 12VOUT must exceed 11.1V before the P\W\R\G\D\ pin can pull low. A 440ohm active pull-down discharges 12VOUT to ground when the power switches are (See Datasheet)"

## LTC4244CGN#PBF
designator U?
Rugged, Compact PCI Bus Hot Swap Controller, 3.3 V, 5 V, +/-12 V Vin, 20-pin SOP (GN-20), 0 to 70 degC, Pb-Free; Manufacturer: Linear Technology; PartNumber: LTC4244CGN#PBF; Active Limiting: yes; Circuit Breaker Accuracy(%): 14; Circuit Breaker Threshold: 52 mV; Circuit Breakers(#): 4; Extended Temp: C, I; Fast Comparator: no; In-Rush Current: Active; PackageVersion: Rev. B, 03/2012; PackageReference: GN-20; PackageDescription: 20-Pin Plastic SSOP, Body 8.649 x 3.899 mm, Pitch 0.635 mm; Supplier 1: Digi-Key; Supplier Part Number 1: LTC4244CGN#PBF-ND; Fault: yes; Foldback: yes; Power Good: yes; Reset: no; RoHS: TRUE; Vin Range: 3.3 V, 5 V, +/-12 V; Mounting Technology: Surface Mount; ComponentLink1Description: Manufacturer URL; ComponentLink1URL: http://www.linear.com/; ComponentLink2Description: Datasheet; ComponentLink2URL: http://cds.linear.com/docs/en/datasheet/42441f.pdf; ComponentLink3Description: Package Specification; ComponentLink3URL: http://cds.linear.com/docs/en/packaging/05081641_B_GN20.pdf
footprint LT-GN-20_N (SOP, 20-Leads, Body 8.7x4mm, Pitch 0.635mm, IPC Medium Density)
footprint LT-GN-20_L (SOP, 20-Leads, Body 8.7x4mm, Pitch 0.635mm, IPC High Density)
footprint LT-GN-20_M (SOP, 20-Leads, Body 8.7x4mm, Pitch 0.635mm, IPC Low Density)
pins: 1 12VIN (power) "12V Supply Input. A 0.5ohm switch is connected between 12VIN and 12VOUT with a foldback current limit. An undervoltage lockout circuit prevents the switches from turning on while the 12VIN pin voltage is less than 9V. 12VIN (See Datasheet)", 2 VEEIN (power) "-12V Supply Input. A 1ohm switch is connected between VEEIN and VEEOUT with a foldback current limit. An undervoltage lockout circuit prevents the switches from turning on while the VEEIN pin voltage is greater than -9.25V. (See Datasheet)", 3 5VOUT (in) "5V Output Sense. The P\W\R\G\D\ pin will not pull low until the 5VOUT pin voltage exceeds 4.61V. A 200ohm active pull-down discharges 5VOUT to ground when the power switches are turned off.", 4 TIMER (in) "Current Fault Inhibit Timing Input and Auxiliary VCC. Connect a capacitor from TIMER to GND. When the LTC4244 is turned on, a 21uA pull-up current source is connected to TIMER. Current limit faults will be ignored until the (See Datasheet)", 5 OFF/~{ON} (in) "Digital Input. Connect the CPCI BD_SEL# signal to the OFF/O\N\ pin. When the OFF/O\N\ pin is pulled low, the GATE pin is pulled high by a 67uA current source and the internal 12V and -12V switches are turned on. When the (See Datasheet)", 6 ~{FAULT} (io) "Open-Drain Digital I/O. F\A\U\L\T\ is pulled low when a current limit fault is detected. Current limit faults are ignored until the voltage at the TIMER pin is within 1.6V of 12VIN. Once the TIMER cycle is complete, (See Datasheet)", 7 ~{PWRGD} (oc) "Open-Drain Digital Power Good Output. Connect the CPCI HEALTHY# signal to the P\W\R\G\D\ pin. P\W\R\G\D\ remains low while V12VOUT >= 11.1V, V3.3VOUT >= 2.9V, V5VOUT >= 4.61V, and VEEOUT=< -11.1V. When any of the supplies (See Datasheet)", 8 GND (power) "Device Ground.", 9 ~{RESETIN} (in) "Digital Input. Connect the CPCI PCI_RST# signal to the R\E\S\E\T\I\N\ pin. Pulling the R\E\S\E\T\I\N\ pin low will cause R\E\S\E\T\O\U\T\ to pull low. R\E\S\E\T\O\U\T\ will also pull low when P\W\R\G\D\ is high.", 10 ~{RESETOUT} (oc) "Open-Drain Digital Output. Connect the CPCI_LOCAL_RST# signal to the R\E\S\E\T\O\U\T\ pin. R\E\S\E\T\O\U\T\ is the logical combination of the R\E\S\E\T\I\N\ and P\W\R\G\D\.", 11 DRIVE (oc) "Precharge Base Drive Output. Provides base drive for an external NPN emitter-follower that in turn biases the PRECHARGE node.", 12 PRECHARGE (in) "Precharge Monitor Input. An internal error amplifier servos the DRIVE pin voltage to keep the PRECHARGE node at 1V. See Applications Information for generating voltages other than 1V. If not used, tie the PRECHARGE pin to (See Datasheet)", 13 5VIN (in) "5V Supply Sense Input. An undervoltage lockout circuit prevents the switches from turning on when the voltage at the 5VIN pin is less than 4.25V.", 14 5VSENSE (in) "5V Current Limit Sense. With a sense resistor placed in the supply path between 5VIN and 5VSENSE, the GATE pin voltage will be adjusted to maintain a constant 51mV across the sense resistor and a constant current through the (See Datasheet)", 15 GATE (out) "High Side Gate Drive for the External 3.3V and 5V N-Channel Pass Transistors. An external series RC network is required for current limit loop compensation and setting the minimum ramp-up time. During power-up, the slope of (See Datasheet)", 16 3.3VSENSE (in) "3.3V Current Limit Sense. With a sense resistor placed in the supply path between 3.3VIN and 3.3VSENSE, the GATE pin voltage will be adjusted to maintain a constant 51mV across the sense resistor and a constant current (See Datasheet)", 17 3.3VIN (in) "3.3V Supply Sense Input. An undervoltage lockout circuit prevents the switches from turning on when the voltage at the 3.3VIN pin is less than 2.5V. If no 3.3V input supply is available, short the 3.3VIN pin to the 5VIN pin.", 18 3.3VOUT (in) "Analog Input Used to Monitor the 3.3V Output Supply Voltage. The P\W\R\G\D\ pin cannot pull low until the 3.3VOUT pin voltage exceeds 2.9V. If no 3.3V input supply is available, tie the 3.3VOUT pin to the 5VOUT pin. A 200ohm (See Datasheet)", 19 VEEOUT (power) "12V Supply Output. A 1ohm switch is connected between VEEIN and VEEOUT. VEEOUT must be less than -11.1V before the P\W\R\G\D\ pin pulls low. The VEEOUT power good comparator is disabled for the LTC4244-1. A390ohm active (See Datasheet)", 20 12VOUT (power) "12V Supply Output. A 0.5ohm switch is connected between 12VIN and 12VOUT. 12VOUT must exceed 11.1V before the P\W\R\G\D\ pin can pull low. A 440ohm active pull-down discharges 12VOUT to ground when the power switches are (See Datasheet)"

## LTC4244CGN#TR
designator U?
Rugged, Compact PCI Bus Hot Swap Controller, 3.3 V, 5 V, +/-12 V Vin, 20-pin SOP (GN-20), 0 to 70 degC, Tape and Reel; Manufacturer: Linear Technology; PartNumber: LTC4244CGN#TR; Active Limiting: yes; Circuit Breaker Accuracy(%): 14; Circuit Breaker Threshold: 52 mV; Circuit Breakers(#): 4; Extended Temp: C, I; Fast Comparator: no; In-Rush Current: Active; PackageVersion: Rev. B, 03/2012; PackageReference: GN-20; PackageDescription: 20-Pin Plastic SSOP, Body 8.649 x 3.899 mm, Pitch 0.635 mm; Supplier 1: Digi-Key; Supplier Part Number 1: LTC4244CGN#TR-ND; Fault: yes; Foldback: yes; Packing: Tape and Reel; Power Good: yes; Reset: no; RoHS: FALSE; Vin Range: 3.3 V, 5 V, +/-12 V; Mounting Technology: Surface Mount; ComponentLink1Description: Manufacturer URL; ComponentLink1URL: http://www.linear.com/; ComponentLink2Description: Datasheet; ComponentLink2URL: http://cds.linear.com/docs/en/datasheet/42441f.pdf; ComponentLink3Description: Package Specification; ComponentLink3URL: http://cds.linear.com/docs/en/packaging/05081641_B_GN20.pdf
footprint LT-GN-20_N (SOP, 20-Leads, Body 8.7x4mm, Pitch 0.635mm, IPC Medium Density)
footprint LT-GN-20_L (SOP, 20-Leads, Body 8.7x4mm, Pitch 0.635mm, IPC High Density)
footprint LT-GN-20_M (SOP, 20-Leads, Body 8.7x4mm, Pitch 0.635mm, IPC Low Density)
pins: 1 12VIN (power) "12V Supply Input. A 0.5ohm switch is connected between 12VIN and 12VOUT with a foldback current limit. An undervoltage lockout circuit prevents the switches from turning on while the 12VIN pin voltage is less than 9V. 12VIN (See Datasheet)", 2 VEEIN (power) "-12V Supply Input. A 1ohm switch is connected between VEEIN and VEEOUT with a foldback current limit. An undervoltage lockout circuit prevents the switches from turning on while the VEEIN pin voltage is greater than -9.25V. (See Datasheet)", 3 5VOUT (in) "5V Output Sense. The P\W\R\G\D\ pin will not pull low until the 5VOUT pin voltage exceeds 4.61V. A 200ohm active pull-down discharges 5VOUT to ground when the power switches are turned off.", 4 TIMER (in) "Current Fault Inhibit Timing Input and Auxiliary VCC. Connect a capacitor from TIMER to GND. When the LTC4244 is turned on, a 21uA pull-up current source is connected to TIMER. Current limit faults will be ignored until the (See Datasheet)", 5 OFF/~{ON} (in) "Digital Input. Connect the CPCI BD_SEL# signal to the OFF/O\N\ pin. When the OFF/O\N\ pin is pulled low, the GATE pin is pulled high by a 67uA current source and the internal 12V and -12V switches are turned on. When the (See Datasheet)", 6 ~{FAULT} (io) "Open-Drain Digital I/O. F\A\U\L\T\ is pulled low when a current limit fault is detected. Current limit faults are ignored until the voltage at the TIMER pin is within 1.6V of 12VIN. Once the TIMER cycle is complete, (See Datasheet)", 7 ~{PWRGD} (oc) "Open-Drain Digital Power Good Output. Connect the CPCI HEALTHY# signal to the P\W\R\G\D\ pin. P\W\R\G\D\ remains low while V12VOUT >= 11.1V, V3.3VOUT >= 2.9V, V5VOUT >= 4.61V, and VEEOUT=< -11.1V. When any of the supplies (See Datasheet)", 8 GND (power) "Device Ground.", 9 ~{RESETIN} (in) "Digital Input. Connect the CPCI PCI_RST# signal to the R\E\S\E\T\I\N\ pin. Pulling the R\E\S\E\T\I\N\ pin low will cause R\E\S\E\T\O\U\T\ to pull low. R\E\S\E\T\O\U\T\ will also pull low when P\W\R\G\D\ is high.", 10 ~{RESETOUT} (oc) "Open-Drain Digital Output. Connect the CPCI_LOCAL_RST# signal to the R\E\S\E\T\O\U\T\ pin. R\E\S\E\T\O\U\T\ is the logical combination of the R\E\S\E\T\I\N\ and P\W\R\G\D\.", 11 DRIVE (oc) "Precharge Base Drive Output. Provides base drive for an external NPN emitter-follower that in turn biases the PRECHARGE node.", 12 PRECHARGE (in) "Precharge Monitor Input. An internal error amplifier servos the DRIVE pin voltage to keep the PRECHARGE node at 1V. See Applications Information for generating voltages other than 1V. If not used, tie the PRECHARGE pin to (See Datasheet)", 13 5VIN (in) "5V Supply Sense Input. An undervoltage lockout circuit prevents the switches from turning on when the voltage at the 5VIN pin is less than 4.25V.", 14 5VSENSE (in) "5V Current Limit Sense. With a sense resistor placed in the supply path between 5VIN and 5VSENSE, the GATE pin voltage will be adjusted to maintain a constant 51mV across the sense resistor and a constant current through the (See Datasheet)", 15 GATE (out) "High Side Gate Drive for the External 3.3V and 5V N-Channel Pass Transistors. An external series RC network is required for current limit loop compensation and setting the minimum ramp-up time. During power-up, the slope of (See Datasheet)", 16 3.3VSENSE (in) "3.3V Current Limit Sense. With a sense resistor placed in the supply path between 3.3VIN and 3.3VSENSE, the GATE pin voltage will be adjusted to maintain a constant 51mV across the sense resistor and a constant current (See Datasheet)", 17 3.3VIN (in) "3.3V Supply Sense Input. An undervoltage lockout circuit prevents the switches from turning on when the voltage at the 3.3VIN pin is less than 2.5V. If no 3.3V input supply is available, short the 3.3VIN pin to the 5VIN pin.", 18 3.3VOUT (in) "Analog Input Used to Monitor the 3.3V Output Supply Voltage. The P\W\R\G\D\ pin cannot pull low until the 3.3VOUT pin voltage exceeds 2.9V. If no 3.3V input supply is available, tie the 3.3VOUT pin to the 5VOUT pin. A 200ohm (See Datasheet)", 19 VEEOUT (power) "12V Supply Output. A 1ohm switch is connected between VEEIN and VEEOUT. VEEOUT must be less than -11.1V before the P\W\R\G\D\ pin pulls low. The VEEOUT power good comparator is disabled for the LTC4244-1. A390ohm active (See Datasheet)", 20 12VOUT (power) "12V Supply Output. A 0.5ohm switch is connected between 12VIN and 12VOUT. 12VOUT must exceed 11.1V before the P\W\R\G\D\ pin can pull low. A 440ohm active pull-down discharges 12VOUT to ground when the power switches are (See Datasheet)"